# EAGLE library part 0480371000 (library Connector_USB)
USB(2.0) Type-A, PLUG, 4POS, SMD-THT-R/A Datasheet <https://www.molex.com/pdm_docs/sd/480371000_sd.pdf> Drawing <https://www.molex.com/pdm_docs/sd/480371000_sd.pdf>
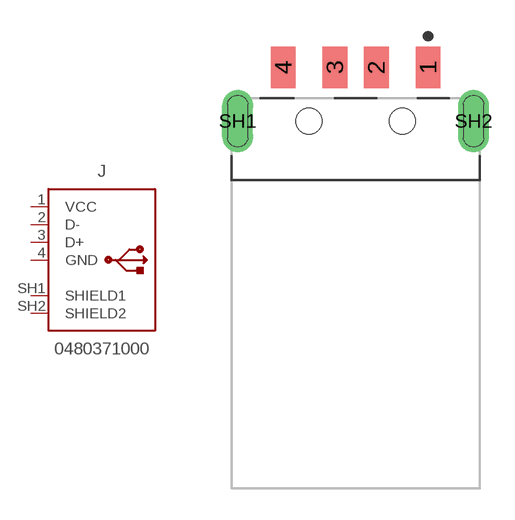
[diagram p2: symbol with the pads of 0480371000; footprint 0480371000]

Designator prefix J

## 0480371000 (CATEGORY: Connector; CONTACTS: 4; CURRENT_RATING: 1.5A; DESCRIPTION: CONN PLUG USB2.0 TYPEA 4P SMD RA; GENDER: Male; MANUFACTURER: Molex; MOUNT_TYPE: R/A; MPN: 0480371000; OPERATING_TEMP: -20° to +85°C; PART_STATUS: Active; ROHS_COMPLIANT: RoHS Compliant; SERIES: 48037; SUB-CATEGORY: USB; TYPE: USB-A; VALUE: USB-A-PLUG; VOLTAGE_RATING: 150V AC (RMS))  [0480371000]
1  VCC  pwr
2  D-
3  D+
4  GND  pwr
SH1  SHIELD1  sup
SH2  SHIELD2  sup

## Footprint 0480371000 (pad centres in mm)
smd 1.2 x 2: 1 3.5,2.6; 2 1,2.6; 3 -1,2.6; 4 -3.5,2.6
drill 1 long: SH1 -5.7,0; SH2 5.7,0
hole 1.25 at -2.25,0
hole 1.25 at 2.25,0